# Altium footprint library PAN-EEE-FP-F.PcbLib: 1 footprints
Each footprint in its own frame and in the unit in brackets; x right, y up, seen from the top. Pads: shape width x height; smd on the part's side, far side on the other; paste and mask are expansions set on the pad; w line width, h text height; cw(c..) or ccw(c..) is an arc to the next point about the centre after c.
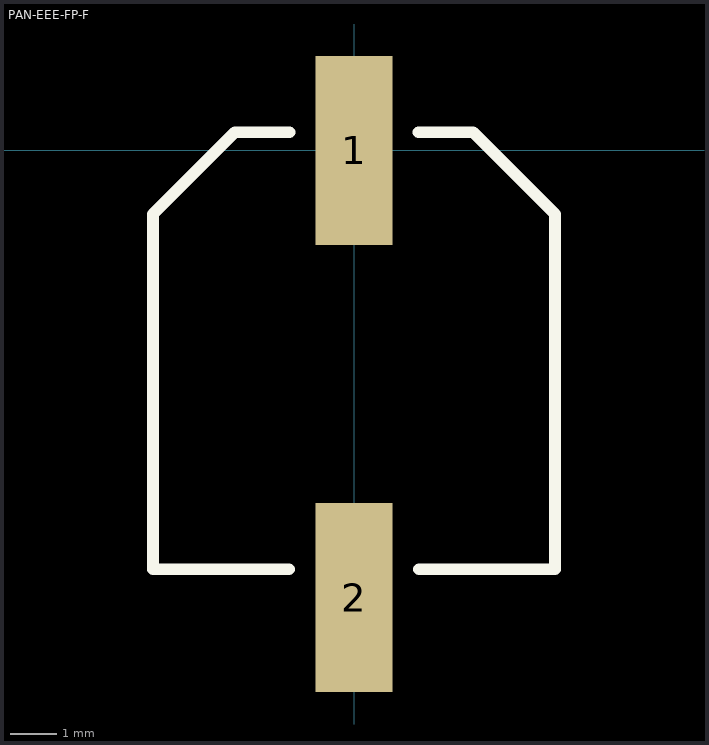
[diagram p0: the footprint, top view; thin cyan lines are the x and y axes]

## PAN-EEE-FP-F [mil]
pads (2):
  rect 65x160 smd: 1(0,0) 2(0,-377.95)
Top Overlay:
  lines w10: -55,-354 -170,-354 -170,-54 -100.61,15.39 -54.61,15.39 ; 54.61,15.39 100.61,15.39 170,-54 170,-354 55,-354
3D body: height 413.39, standoff 0, extent -166,-347.99 167.33,-14.01